# Altium footprint library RPI3-MODBP-BULK.PcbLib: 1 footprints
Each footprint in its own frame and in the unit in brackets; x right, y up, seen from the top. Pads: shape width x height; smd on the part's side, far side on the other; paste and mask are expansions set on the pad; w line width, h text height; cw(c..) or ccw(c..) is an arc to the next point about the centre after c.
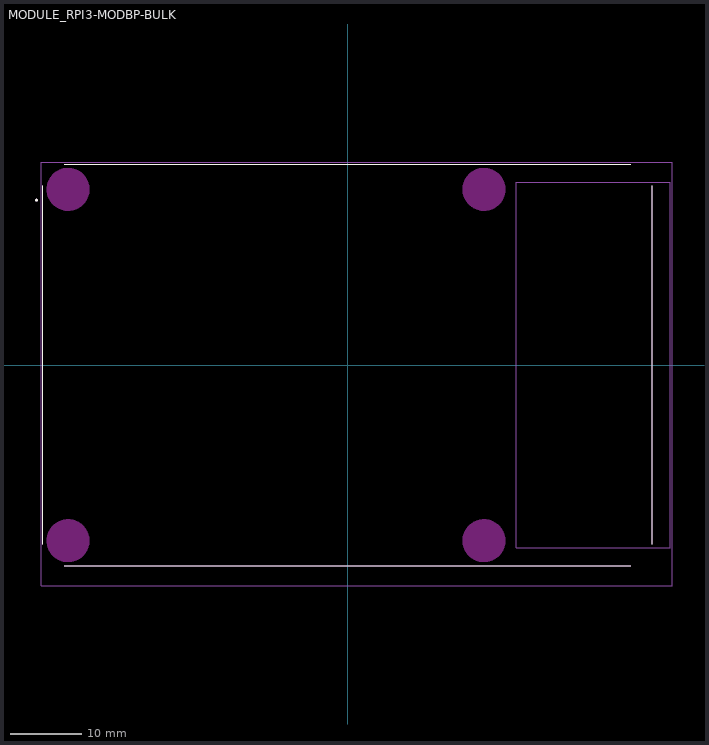
[diagram p0: the footprint, top view; thin cyan lines are the x and y axes]

## MODULE_RPI3-MODBP-BULK [mm]
Top Overlay:
  circle w0.2: c-43.4,23 r0.1
  lines w0.127: -42.5,-25 -42.5,25 ; -39.5,-28 39.5,-28 ; -39.5,28 39.5,28 ; 42.5,-25 42.5,25
Keep-Out Layer:
  circle w3: c-39,-24.5 r1.5
  circle w3: c19,-24.5 r1.5
  circle w3: c19,24.5 r1.5
  circle w3: c-39,24.5 r1.5
Mechanical 13:
  circle w0.2: c-43.4,23 r0.1
  lines w0.127: -42.5,-25 -42.5,25 ; -39.5,-28 39.5,-28 ; -39.5,28 39.5,28 ; 42.5,-25 42.5,25 ; 23.5,-25.5 23.5,25.5 45,25.5 45,-25.5 23.5,-25.5
Mechanical 15:
  lines w0.05: -42.75,-30.75 45.25,-30.75 45.25,28.25 -42.75,28.25 -42.75,-30.75